# Altium footprint library SparkFun-IC-Microcontroller.PCBLIB: 42 footprints (part 3 of 3)
Each footprint in its own frame and in the unit in brackets; x right, y up, seen from the top. Pads: shape width x height; smd on the part's side, far side on the other; paste and mask are expansions set on the pad; w line width, h text height; cw(c..) or ccw(c..) is an arc to the next point about the centre after c.
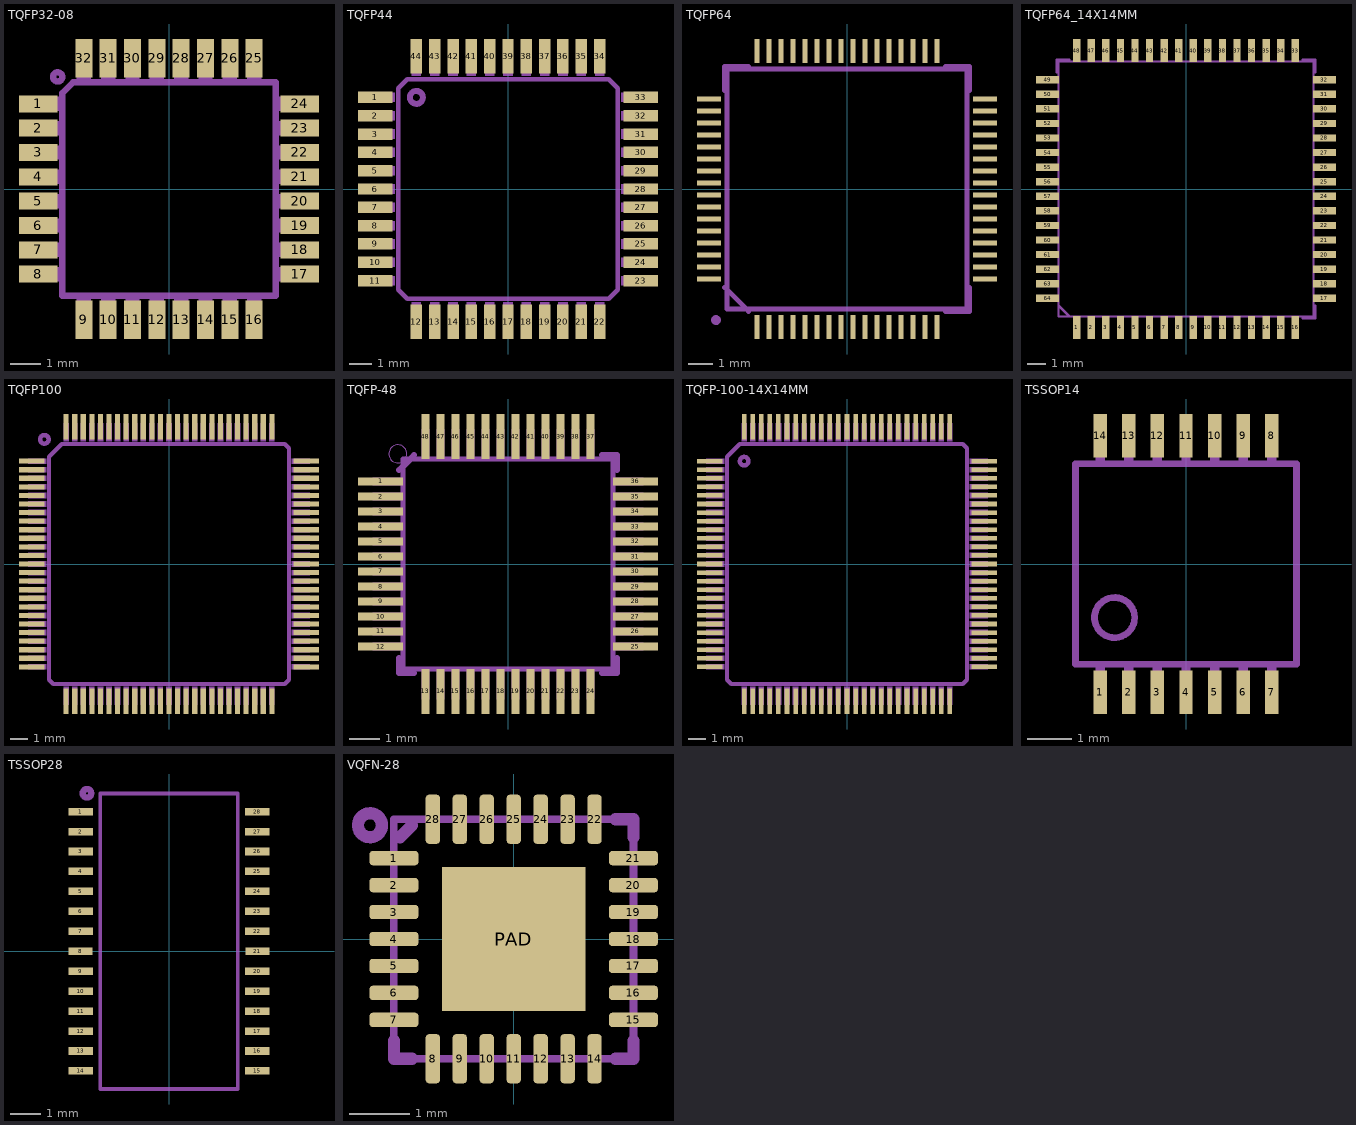
[diagram p2: the footprints below, top view; thin cyan lines are the x and y axes]

## TQFP32-08 [mil]
pads (32):
  rect 50x22 smd: 1(-169,110.24) 2(-169,78.74) 3(-169,47.24) 4(-169,15.75) 5(-169,-15.75) 6(-169,-47.24) 7(-169,-78.74) 8(-169,-110.24) 17(169,-110.24) 18(169,-78.74) 19(169,-47.24) 20(169,-15.75) 21(169,15.75) 22(169,47.24) 23(169,78.74) 24(169,110.24)
  rect 22x50 smd: 9(-110.24,-169) 10(-78.74,-169) 11(-47.24,-169) 12(-15.75,-169) 13(15.75,-169) 14(47.24,-169) 15(78.74,-169) 16(110.24,-169) 25(110.24,169) 26(78.74,169) 27(47.24,169) 28(15.75,169) 29(-15.75,169) 30(-47.24,169) 31(-78.74,169) 32(-110.24,169)
tDocu:
  region: -179,101.24 -179,119.24 -140,119.24 -140,101.24
  region: -179,69.74 -179,87.74 -140,87.74 -140,69.74
  region: -179,38.24 -179,56.24 -140,56.24 -140,38.24
  region: -179,6.75 -179,24.75 -140,24.75 -140,6.75
  region: -179,-24.75 -179,-6.75 -140,-6.75 -140,-24.75
  region: -179,-56.24 -179,-38.24 -140,-38.24 -140,-56.24
  region: -179,-87.74 -179,-69.74 -140,-69.74 -140,-87.74
  region: -179,-119.24 -179,-101.24 -140,-101.24 -140,-119.24
  region: -119.24,-179 -119.24,-140 -101.24,-140 -101.24,-179
  region: -87.74,-179 -87.74,-140 -69.74,-140 -69.74,-179
  region: -56.24,-179 -56.24,-140 -38.24,-140 -38.24,-179
  region: -24.75,-179 -24.75,-140 -6.75,-140 -6.75,-179
  region: 6.75,-179 6.75,-140 24.75,-140 24.75,-179
  region: 38.24,-179 38.24,-140 56.24,-140 56.24,-179
  region: 69.74,-179 69.74,-140 87.74,-140 87.74,-179
  region: 101.24,-179 101.24,-140 119.24,-140 119.24,-179
  region: 140,-119.24 140,-101.24 179,-101.24 179,-119.24
  region: 140,-87.74 140,-69.74 179,-69.74 179,-87.74
  region: 140,-56.24 140,-38.24 179,-38.24 179,-56.24
  region: 140,-24.75 140,-6.75 179,-6.75 179,-24.75
  region: 140,6.75 140,24.75 179,24.75 179,6.75
  region: 140,38.24 140,56.24 179,56.24 179,38.24
  region: 140,69.74 140,87.74 179,87.74 179,69.74
  region: 140,101.24 140,119.24 179,119.24 179,101.24
  region: 101.24,140 101.24,179 119.24,179 119.24,140
  region: 69.74,140 69.74,179 87.74,179 87.74,140
  region: 38.24,140 38.24,179 56.24,179 56.24,140
  region: 6.75,140 6.75,179 24.75,179 24.75,140
  region: -24.75,140 -24.75,179 -6.75,179 -6.75,140
  region: -56.24,140 -56.24,179 -38.24,179 -38.24,140
  region: -87.74,140 -87.74,179 -69.74,179 -69.74,140
  region: -119.24,140 -119.24,179 -101.24,179 -101.24,140
tPlace:
  circle w8: c-144,145 r6
  lines w8: -137.99,-137.99 137.99,-137.99 137.99,137.99 -124.02,137.99 -137.99,124.02 -137.99,-137.99

## TQFP44 [mm]
pads (44):
  rect 1.5x0.5 smd: 1(-5.8,4) 2(-5.8,3.2) 3(-5.8,2.4) 4(-5.8,1.6) 5(-5.8,0.8) 6(-5.8,0) 7(-5.8,-0.8) 8(-5.8,-1.6) 9(-5.8,-2.4) 10(-5.8,-3.2) 11(-5.8,-4) 23(5.8,-4) 24(5.8,-3.2) 25(5.8,-2.4) 26(5.8,-1.6) 27(5.8,-0.8) 28(5.8,0) 29(5.8,0.8) 30(5.8,1.6) 31(5.8,2.4) 32(5.8,3.2) 33(5.8,4)
  rect 0.5x1.5 smd: 12(-4,-5.8) 13(-3.2,-5.8) 14(-2.4,-5.8) 15(-1.6,-5.8) 16(-0.8,-5.8) 17(0,-5.8) 18(0.8,-5.8) 19(1.6,-5.8) 20(2.4,-5.8) 21(3.2,-5.8) 22(4,-5.8) 34(4,5.8) 35(3.2,5.8) 36(2.4,5.8) 37(1.6,5.8) 38(0.8,5.8) 39(0,5.8) 40(-0.8,5.8) 41(-1.6,5.8) 42(-2.4,5.8) 43(-3.2,5.8) 44(-4,5.8)
tDocu:
  drawing of 44 lines, arcs and shapes, not listed
tPlace:
  circle w0.254: c-4,4 r0.283
  lines w0.203: -4.8,-4.4 -4.4,-4.8 4.4,-4.8 4.8,-4.4 4.8,4.4 4.4,4.8 -4.4,4.8 -4.8,4.4 -4.8,-4.4

## TQFP64 [mm]
pads (64):
  rect 0.22x1 smd: 1(-3.75,-5.75) 2(-3.25,-5.75) 3(-2.75,-5.75) 4(-2.25,-5.75) 5(-1.75,-5.75) 6(-1.25,-5.75) 7(-0.75,-5.75) 8(-0.25,-5.75) 9(0.25,-5.75) 10(0.75,-5.75) 11(1.25,-5.75) 12(1.75,-5.75) 13(2.25,-5.75) 14(2.75,-5.75) 15(3.25,-5.75) 16(3.75,-5.75) 33(3.75,5.75) 34(3.25,5.75) 35(2.75,5.75) 36(2.25,5.75) 37(1.75,5.75) 38(1.25,5.75) 39(0.75,5.75) 40(0.25,5.75) 41(-0.25,5.75) 42(-0.75,5.75) 43(-1.25,5.75) 44(-1.75,5.75) 45(-2.25,5.75) 46(-2.75,5.75) 47(-3.25,5.75) 48(-3.75,5.75)
  rect 1x0.22 smd: 17(5.75,-3.75) 18(5.75,-3.25) 19(5.75,-2.75) 20(5.75,-2.25) 21(5.75,-1.75) 22(5.75,-1.25) 23(5.75,-0.75) 24(5.75,-0.25) 25(5.75,0.25) 26(5.75,0.75) 27(5.75,1.25) 28(5.75,1.75) 29(5.75,2.25) 30(5.75,2.75) 31(5.75,3.25) 32(5.75,3.75) 49(-5.75,3.75) 50(-5.75,3.25) 51(-5.75,2.75) 52(-5.75,2.25) 53(-5.75,1.75) 54(-5.75,1.25) 55(-5.75,0.75) 56(-5.75,0.25) 57(-5.75,-0.25) 58(-5.75,-0.75) 59(-5.75,-1.25) 60(-5.75,-1.75) 61(-5.75,-2.25) 62(-5.75,-2.75) 63(-5.75,-3.25) 64(-5.75,-3.75)
tDocu:
  lines w0.203: -5,-5 5,-5 5,5 -5,5 -5,-5
tPlace:
  circle w0.203: c-5.461,-5.461 r0.102
  lines w0.203: -5.1,-4.1 -4.1,-5.1 ; -5.1,4.1 -5.1,5.1 -4.1,5.1 ; 4.1,-5.1 5.1,-5.1 5.1,-4.1 ; 4.1,5.1 5.1,5.1 5.1,4.1

## TQFP64_14X14MM [mm]
pads (64):
  rect 0.4x1.27 smd: 1(-6,-7.6) 2(-5.2,-7.6) 3(-4.4,-7.6) 4(-3.6,-7.6) 5(-2.8,-7.6) 6(-2,-7.6) 7(-1.2,-7.6) 8(-0.4,-7.6) 9(0.4,-7.6) 10(1.2,-7.6) 11(2,-7.6) 12(2.8,-7.6) 13(3.6,-7.6) 14(4.4,-7.6) 15(5.2,-7.6) 16(6,-7.6) 33(6,7.6) 34(5.2,7.6) 35(4.4,7.6) 36(3.6,7.6) 37(2.8,7.6) 38(2,7.6) 39(1.2,7.6) 40(0.4,7.6) 41(-0.4,7.6) 42(-1.2,7.6) 43(-2,7.6) 44(-2.8,7.6) 45(-3.6,7.6) 46(-4.4,7.6) 47(-5.2,7.6) 48(-6,7.6)
  rect 1.27x0.4 smd: 17(7.6,-6) 18(7.6,-5.2) 19(7.6,-4.4) 20(7.6,-3.6) 21(7.6,-2.8) 22(7.6,-2) 23(7.6,-1.2) 24(7.6,-0.4) 25(7.6,0.4) 26(7.6,1.2) 27(7.6,2) 28(7.6,2.8) 29(7.6,3.6) 30(7.6,4.4) 31(7.6,5.2) 32(7.6,6) 49(-7.6,6) 50(-7.6,5.2) 51(-7.6,4.4) 52(-7.6,3.6) 53(-7.6,2.8) 54(-7.6,2) 55(-7.6,1.2) 56(-7.6,0.4) 57(-7.6,-0.4) 58(-7.6,-1.2) 59(-7.6,-2) 60(-7.6,-2.8) 61(-7.6,-3.6) 62(-7.6,-4.4) 63(-7.6,-5.2) 64(-7.6,-6)
tDocu:
  lines w0.127: -7,-7 -7,7 7,7 7,-7 -7,-7
tPlace:
  lines w0.127: -7.1,6.4 -7.1,7.1 -6.4,7.1 ; -7,-6.4 -6.4,-7 ; 6.4,-7.1 7.1,-7.1 7.1,-6.4 ; 6.4,7.1 7.1,7.1 7.1,6.4

## TQFP100 [mm]
pads (100):
  rect 1.5x0.3 smd: 1(-8,6) 2(-8,5.5) 3(-8,5) 4(-8,4.5) 5(-8,4) 6(-8,3.5) 7(-8,3) 8(-8,2.5) 9(-8,2) 10(-8,1.5) 11(-8,1) 12(-8,0.5) 13(-8,0) 14(-8,-0.5) 15(-8,-1) 16(-8,-1.5) 17(-8,-2) 18(-8,-2.5) 19(-8,-3) 20(-8,-3.5) 21(-8,-4) 22(-8,-4.5) 23(-8,-5) 24(-8,-5.5) 25(-8,-6) 51(8,-6) 52(8,-5.5) 53(8,-5) 54(8,-4.5) 55(8,-4) 56(8,-3.5) 57(8,-3) 58(8,-2.5) 59(8,-2) 60(8,-1.5) 61(8,-1) 62(8,-0.5) 63(8,0) 64(8,0.5) 65(8,1) 66(8,1.5) 67(8,2) 68(8,2.5) 69(8,3) 70(8,3.5) 71(8,4) 72(8,4.5) 73(8,5) 74(8,5.5) 75(8,6)
  rect 0.3x1.5 smd: 26(-6,-8) 27(-5.5,-8) 28(-5,-8) 29(-4.5,-8) 30(-4,-8) 31(-3.5,-8) 32(-3,-8) 33(-2.5,-8) 34(-2,-8) 35(-1.5,-8) 36(-1,-8) 37(-0.5,-8) 38(0,-8) 39(0.5,-8) 40(1,-8) 41(1.5,-8) 42(2,-8) 43(2.5,-8) 44(3,-8) 45(3.5,-8) 46(4,-8) 47(4.5,-8) 48(5,-8) 49(5.5,-8) 50(6,-8) 76(6,8) 77(5.5,8) 78(5,8) 79(4.5,8) 80(4,8) 81(3.5,8) 82(3,8) 83(2.5,8) 84(2,8) 85(1.5,8) 86(1,8) 87(0.5,8) 88(0,8) 89(-0.5,8) 90(-1,8) 91(-1.5,8) 92(-2,8) 93(-2.5,8) 94(-3,8) 95(-3.5,8) 96(-4,8) 97(-4.5,8) 98(-5,8) 99(-5.5,8) 100(-6,8)
tDocu:
  drawing of 100 lines, arcs and shapes, not listed
tPlace:
  circle w0.254: c-7.27,7.27 r0.25
  lines w0.254: -7,-6.75 -6.75,-7 6.75,-7 7,-6.75 7,6.75 6.75,7 -6.25,7 -7,6.25 -7,-6.75

## TQFP-48 [mm]
pads (48):
  rect 1.5x0.28 smd: 1(-4.25,2.75) 2(-4.25,2.25) 3(-4.25,1.75) 4(-4.25,1.25) 5(-4.25,0.75) 6(-4.25,0.25) 7(-4.25,-0.25) 8(-4.25,-0.75) 9(-4.25,-1.25) 10(-4.25,-1.75) 11(-4.25,-2.25) 12(-4.25,-2.75) 25(4.25,-2.75) 26(4.25,-2.25) 27(4.25,-1.75) 28(4.25,-1.25) 29(4.25,-0.75) 30(4.25,-0.25) 31(4.25,0.25) 32(4.25,0.75) 33(4.25,1.25) 34(4.25,1.75) 35(4.25,2.25) 36(4.25,2.75)
  rect 0.28x1.5 smd: 13(-2.75,-4.25) 14(-2.25,-4.25) 15(-1.75,-4.25) 16(-1.25,-4.25) 17(-0.75,-4.25) 18(-0.25,-4.25) 19(0.25,-4.25) 20(0.75,-4.25) 21(1.25,-4.25) 22(1.75,-4.25) 23(2.25,-4.25) 24(2.75,-4.25) 37(2.75,4.25) 38(2.25,4.25) 39(1.75,4.25) 40(1.25,4.25) 41(0.75,4.25) 42(0.25,4.25) 43(-0.25,4.25) 44(-0.75,4.25) 45(-1.25,4.25) 46(-1.75,4.25) 47(-2.25,4.25) 48(-2.75,4.25)
tDocu:
  drawing of 52 lines, arcs and shapes, not listed
tPlace:
  circle w0: c-3.673,3.673 r0.3
  lines w0.203: -3.627,-3.127 -3.627,-3.627 -3.127,-3.627 ; -3.627,3.127 -3.127,3.627 ; 3.127,-3.627 3.627,-3.627 3.627,-3.127 ; 3.127,3.627 3.627,3.627 3.627,3.127

## TQFP-100-14X14MM [mm]
pads (100):
  rect 1.5x0.27 smd: 1(-8,6) 2(-8,5.5) 3(-8,5) 4(-8,4.5) 5(-8,4) 6(-8,3.5) 7(-8,3) 8(-8,2.5) 9(-8,2) 10(-8,1.5) 11(-8,1) 12(-8,0.5) 13(-8,0) 14(-8,-0.5) 15(-8,-1) 16(-8,-1.5) 17(-8,-2) 18(-8,-2.5) 19(-8,-3) 20(-8,-3.5) 21(-8,-4) 22(-8,-4.5) 23(-8,-5) 24(-8,-5.5) 25(-8,-6) 51(8,-6) 52(8,-5.5) 53(8,-5) 54(8,-4.5) 55(8,-4) 56(8,-3.5) 57(8,-3) 58(8,-2.5) 59(8,-2) 60(8,-1.5) 61(8,-1) 62(8,-0.5) 63(8,0) 64(8,0.5) 65(8,1) 66(8,1.5) 67(8,2) 68(8,2.5) 69(8,3) 70(8,3.5) 71(8,4) 72(8,4.5) 73(8,5) 74(8,5.5) 75(8,6)
  rect 0.27x1.5 smd: 26(-6,-8) 27(-5.5,-8) 28(-5,-8) 29(-4.5,-8) 30(-4,-8) 31(-3.5,-8) 32(-3,-8) 33(-2.5,-8) 34(-2,-8) 35(-1.5,-8) 36(-1,-8) 37(-0.5,-8) 38(0,-8) 39(0.5,-8) 40(1,-8) 41(1.5,-8) 42(2,-8) 43(2.5,-8) 44(3,-8) 45(3.5,-8) 46(4,-8) 47(4.5,-8) 48(5,-8) 49(5.5,-8) 50(6,-8) 76(6,8) 77(5.5,8) 78(5,8) 79(4.5,8) 80(4,8) 81(3.5,8) 82(3,8) 83(2.5,8) 84(2,8) 85(1.5,8) 86(1,8) 87(0.5,8) 88(0,8) 89(-0.5,8) 90(-1,8) 91(-1.5,8) 92(-2,8) 93(-2.5,8) 94(-3,8) 95(-3.5,8) 96(-4,8) 97(-4.5,8) 98(-5,8) 99(-5.5,8) 100(-6,8)
tDocu:
  drawing of 100 lines, arcs and shapes, not listed
tPlace:
  circle w0.254: c-6,6 r0.25
  lines w0.254: -7,-6.75 -6.75,-7 6.75,-7 7,-6.75 7,6.75 6.75,7 -6.25,7 -7,6.25 -7,-6.75

## TSSOP14 [mil]
pads (14):
  rect 12x39 smd: 1(-76.77,-114.87) 2(-51.18,-114.87) 3(-25.59,-114.87) 4(0,-114.87) 5(25.59,-114.87) 6(51.18,-114.87) 7(76.77,-114.87) 8(76.77,114.87) 9(51.18,114.87) 10(25.59,114.87) 11(0,114.87) 12(-25.59,114.87) 13(-51.18,114.87) 14(-76.77,114.87)
tDocu:
  region: -80.77,-122.87 -80.77,-89.87 -72.77,-89.87 -72.77,-122.87
  region: -55.18,-122.87 -55.18,-89.87 -47.18,-89.87 -47.18,-122.87
  region: -29.59,-122.87 -29.59,-89.87 -21.59,-89.87 -21.59,-122.87
  region: -4,-122.87 -4,-89.87 4,-89.87 4,-122.87
  region: 21.59,-122.87 21.59,-89.87 29.59,-89.87 29.59,-122.87
  region: 47.18,-122.87 47.18,-89.87 55.18,-89.87 55.18,-122.87
  region: 72.77,-122.87 72.77,-89.87 80.77,-89.87 80.77,-122.87
  region: 72.77,89.87 72.77,122.87 80.77,122.87 80.77,89.87
  region: 47.18,89.87 47.18,122.87 55.18,122.87 55.18,89.87
  region: 21.59,89.87 21.59,122.87 29.59,122.87 29.59,89.87
  region: -4,89.87 -4,122.87 4,122.87 4,89.87
  region: -29.59,89.87 -29.59,122.87 -21.59,122.87 -21.59,89.87
  region: -55.18,89.87 -55.18,122.87 -47.18,122.87 -47.18,89.87
  region: -80.77,89.87 -80.77,122.87 -72.77,122.87 -72.77,89.87
  lines w6: -99,-89.87 99,-89.87 ; -99,89.87 99,89.87
tPlace:
  circle w6: c-64,-48 r18
  lines w6: -99,-89.87 -99,89.87 ; 99,-89.87 99,89.87

## TSSOP28 [mil]
pads (28):
  rect 31.5x9.84 smd: 1(-115,182) 2(-115,156) 3(-115,130) 4(-115,104) 5(-115,78) 6(-115,52) 7(-115,26) 8(-115.24,0) 9(-115,-26) 10(-115,-52) 11(-115,-78) 12(-115,-104) 13(-115,-130) 14(-115,-156) 15(115,-156) 16(115,-130) 17(115,-104) 18(115,-78) 19(115,-52) 20(115,-26) 21(115.24,0) 22(115,26) 23(115,52) 24(115,78) 25(115,104) 26(115,130) 27(115,156) 28(115,182)
tDocu:
  lines w5: -89.61,-179.54 89.61,-179.54 89.61,205.54 -89.61,205.54 -89.61,-179.54
tPlace:
  circle w8: c-106.93,205.86 r5.57
  lines w5: -89.61,-179.54 89.61,-179.54 89.61,205.54 -89.61,205.54 -89.61,-179.54

## VQFN-28 [mm]
pads (29):
  rrect50% 0.82x0.24 smd: 1(-2,1.35) 2(-2,0.9) 3(-2,0.45) 4(-2,0) 5(-2,-0.45) 6(-2,-0.9) 7(-2,-1.35) 15(2,-1.35) 16(2,-0.9) 17(2,-0.45) 18(2,0) 19(2,0.45) 20(2,0.9) 21(2,1.35)
  rrect50% 0.24x0.82 smd: 8(-1.35,-2) 9(-0.9,-2) 10(-0.45,-2) 11(0,-2) 12(0.45,-2) 13(0.9,-2) 14(1.35,-2) 22(1.35,2) 23(0.9,2) 24(0.45,2) 25(0,2) 26(-0.45,2) 27(-0.9,2) 28(-1.35,2)
  rect 2.4x2.4 smd paste+0: PAD(0,0)
Top Paste:
  region: -0.894,-0.894 -0.894,-0.231 -0.231,-0.231 -0.231,-0.894
  region: 0.894,0.894 0.894,0.231 0.231,0.231 0.231,0.894
  region: -0.894,0.231 -0.894,0.894 -0.231,0.894 -0.231,0.231
  region: 0.894,-0.231 0.894,-0.894 0.231,-0.894 0.231,-0.231
tDocu:
  lines w0.127: -2,-2 -2,2 2,2 2,-2 -2,-2
tPlace:
  circle w0.203: c-2.4,1.9 r0.2
  lines w0.203: -2,-1.7 -2,-2 -1.7,-2 ; -1.9,1.7 -1.7,1.9 ; 1.7,-2 2,-2 2,-1.7 ; 1.7,2 2,2 2,1.7